# Altium schematic symbol library MP4560.SchLib: 1 symbol
Pins are listed as number, name and electrical type; pins without a type are passive.

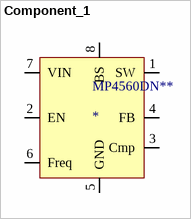
[diagram p0: symbol Component_1]

## Component_1
designator MP4560DN**
MP4560 / 2A, 2MHz, 55V / Step-Down Converter; Manufacturer: Monolothic Power; Manufacturer part no: MP4560DN**
footprint SOIC127P600X170_HS-9N (SOIC, 8-Leads, Body 4.90x3.90mm, Pitch 1.27mm, Thermal Pad 3.51x2.62mm, IPC Medium Density)
pins: 1 SW, 2 EN, 3 Cmp, 4 FB, 5 GND, 6 Freq, 7 VIN, 8 BS